# Altium schematic symbol library EnviromentalBoard.SchLib: 37 symbols (part 1 of 2)
Pins are listed as number, name and electrical type; pins without a type are passive.

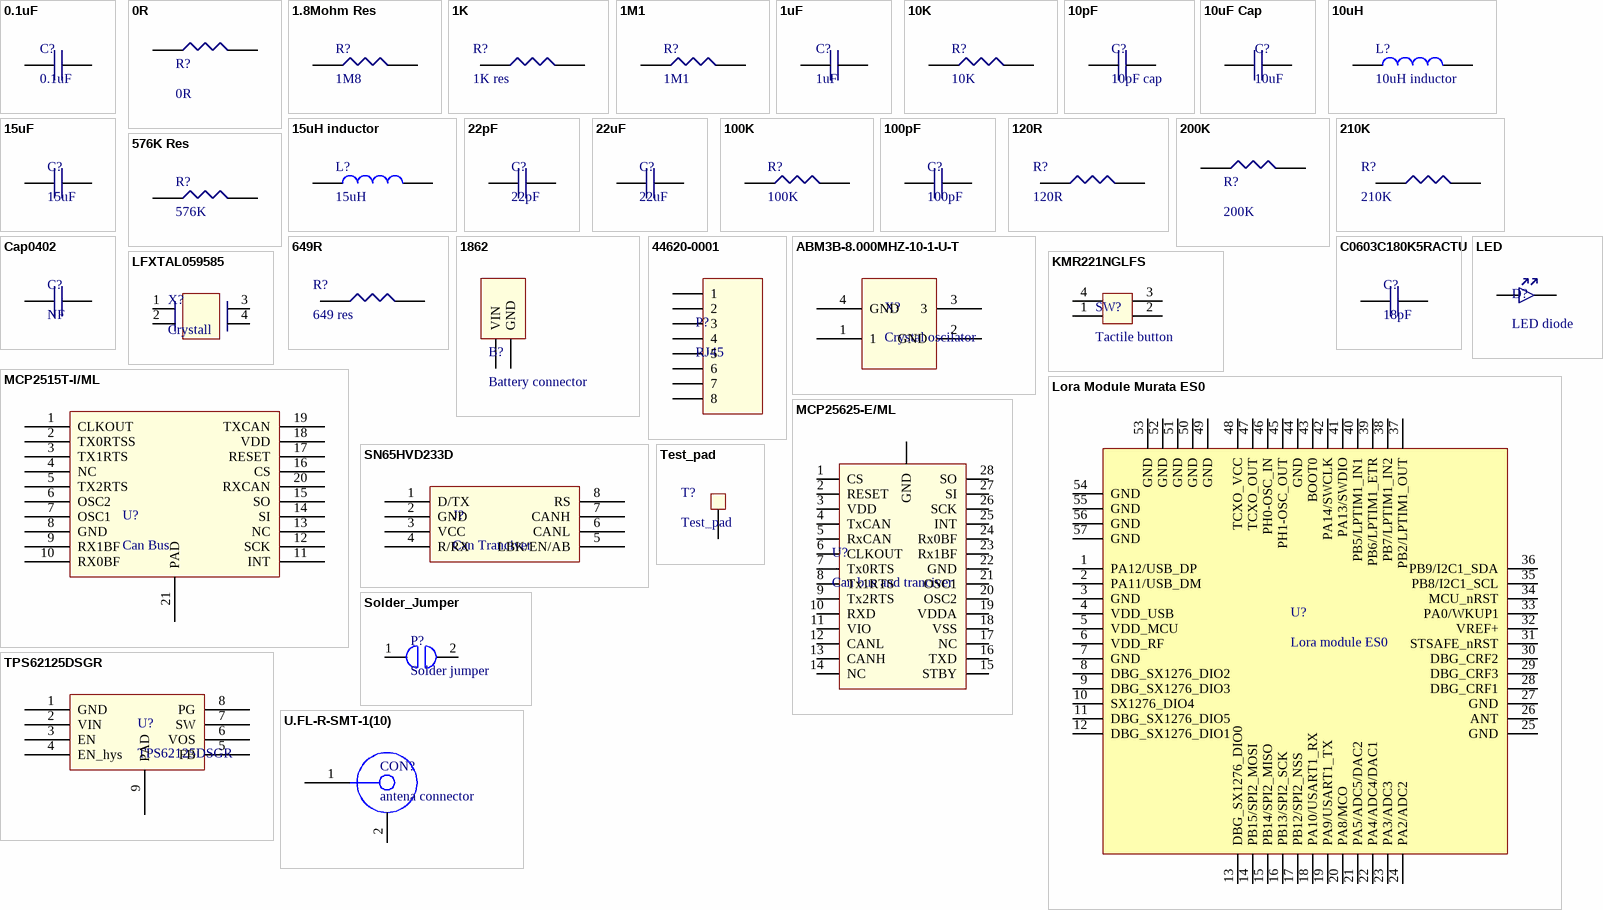
[diagram p0: symbols 0.1uF to U.FL-R-SMT-1(10)]

## 0.1uF
designator C?
Multilayer Ceramic Capacitors MLCC - SMD/SMT .1uF 50Volts X7R +/-10% 0603 STD; Manufacturer: KEMET; Manufacturer Part Number: C0603C104K4RAC7081; Ceramic Capacitor Case: 0603 [1608 Metric]; Capacitance: 0.1µF; Voltage Rating: 16V; Capacitance Tolerance: ± 10%; Product Range: C Series; SVHC: No SVHC (15-Jun-2015); Supplier 1: Farnell; Stock 1: 131460; Pricing 1: 10=0.0639, 100=0.0337, 500=0.0247, 2500=0.0209 (EUR); Dielectric Characteristic: X7R; Packaging: Cut Tape; Operating Temperature Min: -55°C; Operating Temperature Max: 125°C; Automotive Qualification Standard: -; MSL: MSL 1 - Unlimited; ComponentLink1URL: http://www.farnell.com/datasheets/2112158.pdf; ComponentLink1Description: http://www.farnell.com/datasheets/2112158.pdf; ComponentLink2URL: http://www.farnell.com/datasheets/2316283.pdf; ComponentLink2Description: http://www.farnell.com/datasheets/2316283.pdf; ComponentLink3URL: https://api.kemet.com/component-edge/download/datasheet/C0603C104K4RAC7081.pdf; ComponentLink3Description: https://api.kemet.com/component-edge/download/datasheet/C0603C104K4RAC7081.pdf; Supplier Part Number 1: 2522597
footprint 0603Cap
pins: 1, 2

## 0R
designator R?
RES SMD 0.0OHM JUMPER 1/10W 0603; Manufacturer: Vishay; Manufacturer Part Number: CRCW06030000Z0EA; EDA / CAD Models: Download from Accelerated Designs; Resistance (Ohms): 0.0; Power (Watts): 0.1W, 1/10W; Online Catalog: CRCW - Automotive Series; Kits: 541-1419-ND  - RESISTOR KIT 0-1M 1/10W 6100PCS; Other Names: 541-0.0GCT; Supplier 1: Farnell; Stock 1: 1145000; Pricing 1: 5000=0.0046 (EUR); Standard Package: 1; Category: Resistors; Family: Chip Resistor - Surface Mount; Series: CRCW; Packaging: Cut Tape (CT); Tolerance: Jumper; Composition: Thick Film; Features: Automotive AEC-Q200; Temperature Coefficient: -; Operating Temperature: -55°C ~ 155°C; Package / Case: 0603 (1608 Metric); Supplier Device Package: 0603 (1608 Metric); Size / Dimension: 0.061" L x 0.033" W (1.55mm x 0.85mm); Height: 0.020" (0.50mm); Number of Terminations: 2; ComponentLink1URL: https://datasheet.ciiva.com/2461/dcrcwe3-2461968.pdf; ComponentLink1Description: https://datasheet.ciiva.com/2461/dcrcwe3-2461968.pdf; ComponentLink2URL: https://datasheet.ciiva.com/2461/dcrcwe3-2461969.pdf; ComponentLink2Description: https://datasheet.ciiva.com/2461/dcrcwe3-2461969.pdf; ComponentLink3URL: https://datasheet.ciiva.com/2461/dcrcwe3-2461970.pdf; ComponentLink3Description: https://datasheet.ciiva.com/2461/dcrcwe3-2461970.pdf; ComponentLink4URL: https://datasheet.ciiva.com/8340/dcrcwe3-8340197.pdf; ComponentLink4Description: https://datasheet.ciiva.com/8340/dcrcwe3-8340197.pdf; ComponentLink5URL: https://datasheet.ciiva.com/16941/dcrcw-16941302.pdf; ComponentLink5Description: https://datasheet.ciiva.com/16941/dcrcw-16941302.pdf; ComponentLink6URL: https://datasheet.ciiva.com/16199/dcrcwe3-16199063.pdf; ComponentLink6Description: https://datasheet.ciiva.com/16199/dcrcwe3-16199063.pdf; ComponentLink7URL: https://datasheet.ciiva.com/16725/70201119-16725175.pdf; ComponentLink7Description: https://datasheet.ciiva.com/16725/70201119-16725175.pdf; ComponentLink8URL: https://datasheet.ciiva.com/26316/fld-crcw-e3-data-en-26316615.pdf; ComponentLink8Description: https://datasheet.ciiva.com/26316/fld-crcw-e3-data-en-26316615.pdf; ComponentLink9URL: https://datasheet.ciiva.com/5544/dcrcwe3-109170-5544344.pdf; ComponentLink9Description: https://datasheet.ciiva.com/5544/dcrcwe3-109170-5544344.pdf; ComponentLink10URL: https://datasheet.ciiva.com/7841/1720486-7841816.pdf; ComponentLink10Description: https://datasheet.ciiva.com/7841/1720486-7841816.pdf; ComponentLink11URL: https://datasheet.ciiva.com/7841/1720486-7841817.pdf; ComponentLink11Description: https://datasheet.ciiva.com/7841/1720486-7841817.pdf; ComponentLink12URL: https://datasheet.ciiva.com/7841/125364-7841818.pdf; ComponentLink12Description: https://datasheet.ciiva.com/7841/125364-7841818.pdf; ComponentLink13URL: https://datasheet.ciiva.com/16721/70201119-16721450.pdf; ComponentLink13Description: https://datasheet.ciiva.com/16721/70201119-16721450.pdf; Supplier Part Number 1: 2122112
footprint 0603Res
pins: 1, 2

## 1.8Mohm Res
designator R?, comment 1M8
Manufacturer: Multicomp; Manufacturer Part Number: MCHVR03FTFX1804; Supplier 1: Farnell; Stock 1: 4880; Pricing 1: 10=0.0383, 100=0.0291, 500=0.0206, 1000=0.0165, 2500=0.0138, 5000=0.0119, 25000=0.0085 (EUR); Supplier Part Number 1: 2825653
footprint 0603Res
pins: 1, 2

## 1K
designator R?, comment 1K res
Thick Film Resistors - SMD CRGH0603 1% 1K0 0.2W; Manufacturer: TE Connectivity; Manufacturer Part Number: CRGH0603F1K0; Resistance: 1kohm; Voltage Rating: 50V; Resistor Case Style: 0603 [1608 Metric]; Power Rating: 200mW; Product Range: CRG Series; Temperature Coefficient: ± 100ppm/°C; SVHC: No SVHC (15-Jun-2015); Supplier 1: Farnell; Stock 1: 4245; Pricing 1: 10=0.0159, 100=0.0135, 500=0.0104, 1000=0.0093, 2500=0.0088 (EUR); Resistance Tolerance: ± 1%; Packaging: Cut Tape; Resistor Element Type: Thick Film; Automotive Qualification Standard: -; MSL: -; ComponentLink1URL: https://datasheet.ciiva.com/46386/1755795-46386536.pdf; ComponentLink1Description: https://datasheet.ciiva.com/46386/1755795-46386536.pdf; ComponentLink2URL: https://datasheet.ciiva.com/22707/1755795-22707917.pdf; ComponentLink2Description: https://datasheet.ciiva.com/22707/1755795-22707917.pdf; ComponentLink3URL: https://datasheet.ciiva.com/12574/eng-ds-1773204-g-12574479.pdf; ComponentLink3Description: https://datasheet.ciiva.com/12574/eng-ds-1773204-g-12574479.pdf; Supplier Part Number 1: 2332003
footprint 0603Res
pins: 1, 2

## 1M1
designator R?
Manufacturer: Multicomp; Manufacturer Part Number: MCHVR03FTFX1104; Supplier 1: Farnell; Stock 1: 10000; Pricing 1: 5000=0.0122, 25000=0.0088 (EUR); Supplier Part Number 1: 2823300
footprint 0603Res
pins: 1, 2

## 1uF
designator C?
1µF 50V Ceramic Capacitor X5R 0603 (1608 Metric) 0.063" L x 0.031" W (1.60mm x 0.80mm); Manufacturer: TDK; Manufacturer Part Number: C1608X5R1E105K080AC; PCN Part Number: MLCC Part Number Change 30/Nov/2012; Product Training Modules: C Series General Applications SEAT, CCV, and TVCL Design Tools Guide to Replacing an Electrolytic Capacitor with an MLCC; Design Resources: 20 W Non-Isolated Buck LED Driver Using PL LNK460KG; Tolerance: ±10%; Voltage - Rated: 25V; Online Catalog: C Series, General Purpose; Other Names: 445-5146-6; Supplier 1: Farnell; Stock 1: 0; Pricing 1: 10=0.0585, 100=0.0449, 500=0.0335, 1000=0.0279 (GBP); RoHS Information: RoHS Certificate-MLCC; Standard Package: 1; Category: Capacitors; Family: Ceramic Capacitors; Series: C; Packaging: Digi-Reel®; Capacitance: 1µF; Temperature Coefficient: X5R; Mounting Type: Surface Mount, MLCC; Operating Temperature: -55°C ~ 85°C; Applications: General Purpose; Ratings: -; Package / Case: 0603 (1608 Metric); Size / Dimension: 0.063" L x 0.031" W (1.60mm x 0.80mm); Height - Seated (Max): -; Thickness (Max): 0.037" (0.95mm); Lead Spacing: -; Features: -; Lead Style: -; ComponentLink1URL: https://datasheet.ciiva.com/28451/1796654-28451158.pdf; ComponentLink1Description: https://datasheet.ciiva.com/28451/1796654-28451158.pdf; ComponentLink2URL: https://datasheet.ciiva.com/16394/e412-c-16394039.pdf; ComponentLink2Description: https://datasheet.ciiva.com/16394/e412-c-16394039.pdf; ComponentLink3URL: https://datasheet.ciiva.com/6292/tdkmlcccaprange-6292456.pdf; ComponentLink3Description: https://datasheet.ciiva.com/6292/tdkmlcccaprange-6292456.pdf; ComponentLink4URL: https://datasheet.ciiva.com/6292/tdkmlcccaprange-6292458.pdf; ComponentLink4Description: https://datasheet.ciiva.com/6292/tdkmlcccaprange-6292458.pdf; ComponentLink5URL: https://datasheet.ciiva.com/22676/1571323-22676922.pdf; ComponentLink5Description: https://datasheet.ciiva.com/22676/1571323-22676922.pdf; Supplier Part Number 1: 2346891
footprint 0603Cap
pins: 1, 2

## 10K
designator R?
TE CONNECTIVITY / NEOHM         CPF0603F10KC1             SMD Chip Resistor, Thin Film, 10 kohm, 50 V, 0603 [1608 Metric], 63 mW,  1%, CPF Series; Manufacturer: TE Connectivity Neohm; SVHC: To Be Advised; Product Range: TE CONNECTIVITY - CPF Series; Resistance: 10kohm; Power Rating: 63mW; Temperature Coefficient: ± 50ppm/°C; Voltage Rating: 60V; Climatic Category: 55/125/55; External Depth: 0.45mm; External Length / Height: 1.6mm; External Width: 0.8mm; No. of Pins: 2; Overload Voltage: 120V; Supplier 1: Farnell; Manufacturer Part Number: CPF0603F10KC1; Stock 1: 0; Resistor Element Type: Thin Film; Resistance Tolerance: ± 1%; Resistor Case Style: 0603 [1608 Metric]; Resistor Element Material: Thin Film; Packaging: Cut Tape; MSL: (Not Available); Operating Temperature Max: 125°C; Operating Temperature Min: -55°C; Operating Temperature Range: -55°C to +125°C; Package / Case: 0603; Resistor Mounting: SMD; Series: CPF; ComponentLink1URL: https://datasheet.ciiva.com/24494/29261eng-ds-1773200-f-24494553.pdf; ComponentLink1Description: https://datasheet.ciiva.com/24494/29261eng-ds-1773200-f-24494553.pdf; ComponentLink2URL: https://datasheet.ciiva.com/7789/eng-ds-1773200-j-7789563.pdf; ComponentLink2Description: https://datasheet.ciiva.com/7789/eng-ds-1773200-j-7789563.pdf; ComponentLink3URL: https://datasheet.ciiva.com/16902/eng-ds-1773200-i-16902044.pdf; ComponentLink3Description: https://datasheet.ciiva.com/16902/eng-ds-1773200-i-16902044.pdf; ComponentLink4URL: https://datasheet.ciiva.com/22692/1786775-22692861.pdf; ComponentLink4Description: https://datasheet.ciiva.com/22692/1786775-22692861.pdf; Supplier Part Number 1: 1527581RL
footprint 0603Res
pins: 1, 2

## 10pF
designator C?, comment 10pF cap
Cap Ceramic 10pF 50V X7R 10% SMD 0603 125C T/R; Manufacturer: Kyocera AVX; Manufacturer Part Number: 06035C100KAT2A; Supplier 1: Farnell; Stock 1: 0; Capacitance: 10 pF; Case Size/Dimension: 0603; Dielectric: X7R; Tolerance (%): ±10 %; Rated Voltage: 50 V; ComponentLink1URL: https://datasheet.ciiva.com/204/cx7r-204167.pdf; ComponentLink1Description: https://datasheet.ciiva.com/204/cx7r-204167.pdf; ComponentLink2URL: https://datasheet.ciiva.com/28611/1679506-28611544.pdf; ComponentLink2Description: https://datasheet.ciiva.com/28611/1679506-28611544.pdf; ComponentLink3URL: https://datasheet.ciiva.com/22677/1679506-22677033.pdf; ComponentLink3Description: https://datasheet.ciiva.com/22677/1679506-22677033.pdf; ComponentLink4URL: https://datasheet.ciiva.com/16327/cx7r-16327067.pdf; ComponentLink4Description: https://datasheet.ciiva.com/16327/cx7r-16327067.pdf; ComponentLink5URL: https://datasheet.ciiva.com/5416/cx7r-5416268.pdf; ComponentLink5Description: https://datasheet.ciiva.com/5416/cx7r-5416268.pdf; ComponentLink6URL: https://datasheet.ciiva.com/15212/getdatasheetpartid-317346-15212284.pdf; ComponentLink6Description: https://datasheet.ciiva.com/15212/getdatasheetpartid-317346-15212284.pdf; Supplier Part Number 1: 2665201
footprint 0603Cap
pins: 1, 2

## 10uF Cap
designator C?, comment 10uF
MURATA         ZRB18AR61E106ME01L             SMD Multilayer Ceramic Capacitor, 0603 [1608 Metric], 10 F, 25 V,  20%, X5R, ZRA Series; Capacitance: 10µF; Voltage - Rated: 25V; Supplier 1: Farnell; Manufacturer: Murata; Manufacturer Part Number: ZRB18AR61E106ME01L; Stock 1: 0; Pricing 1: 5=0.411, 50=0.187, 250=0.142, 500=0.0978, 1500=0.091 (GBP); Category: Capacitors; Family: Ceramic Capacitors; Series: ZRB; Packaging: Tape & Reel (TR); Tolerance: ±20%; Temperature Coefficient: X5R; Mounting Type: Surface Mount, MLCC; Operating Temperature: -55°C ~ 85°C; Applications: Acoustic Noise Reduction; Ratings: -; Package / Case: 0603 (1608 Metric); Size / Dimension: 0.063" L x 0.031" W (1.60mm x 0.80mm); Height - Seated (Max): -; Thickness (Max): 0.047" (1.20mm); Lead Spacing: -; Features: Interposer Termination; Lead Style: -; ComponentLink1URL: http://www.farnell.com/datasheets/2243360.pdf; ComponentLink1Description: http://www.farnell.com/datasheets/2243360.pdf; ComponentLink2URL: http://www.farnell.com/datasheets/2163235.pdf; ComponentLink2Description: http://www.farnell.com/datasheets/2163235.pdf; ComponentLink3URL: http://search.murata.co.jp/Ceramy/image/img/A01X/G101/ENG/ZRB18AR61E106ME01-01.pdf; ComponentLink3Description: http://search.murata.co.jp/Ceramy/image/img/A01X/G101/ENG/ZRB18AR61E106ME01-01.pdf; Supplier Part Number 1: 2469398
footprint 0603Cap
pins: 1, 2

## 10uH
designator L?, comment 10uH inductor
COILCRAFT   LPS3314-103MRB   INDUCTOR, SHLD, 10UH, 20%, 0.65A, SMD; Product Range: LPS3314 Series; Inductance: 10µH; RMS Current (Irms): 650mA; Saturation Current (Isat): 660mA; Inductor Construction: Shielded; DC Resistance Max: 0.33ohm; Power Inductor Case: 3.3mm x 3.3mm x 1.3mm; SVHC: No SVHC (15-Jun-2015); Supplier 1: Farnell; Manufacturer: Coilcraft; Manufacturer Part Number: LPS3314-103MRB; Stock 1: 67; Pricing 1: 1=0.892, 250=0.701, 500=0.55 (EUR); Inductance Tolerance: ± 20%; Packaging: Cut Tape; ComponentLink1URL: https://datasheet.ciiva.com/46384/1805322-46384791.pdf; ComponentLink1Description: https://datasheet.ciiva.com/46384/1805322-46384791.pdf; ComponentLink2URL: https://datasheet.ciiva.com/46438/1805322-46438520.pdf; ComponentLink2Description: https://datasheet.ciiva.com/46438/1805322-46438520.pdf; Supplier Part Number 1: 2408046
footprint Inductor 3.0x2.5
pins: 1, 2

## 15uF
designator C?
15µF ±20% 6.3V X5R Ceramic Capacitor -55°C ~ 85°C Surface Mount, MLCC 0603 (1608 Metric) 0.063" L x 0.031" W (1.60mm x 0.80mm); Manufacturer: TDK; Manufacturer Part Number: C1608X5R0J156M080AC; PCN Part Number: MLCC Part Number Change 30/Nov/2012; Product Training Modules: C Series General Applications SEAT, CCV, and TVCL Design Tools Guide to Replacing an Electrolytic Capacitor with an MLCC; Design Resources: 20 W Non-Isolated Buck LED Driver Using PL LNK460KG; EDA / CAD Models: Download from Accelerated Designs; Online Catalog: C Series, General Purpose; Other Names: 445-8027-6; Supplier 1: Farnell; Stock 1: 8149; Pricing 1: 10=0.458, 100=0.218, 500=0.152, 1000=0.128 (EUR); RoHS Information: RoHS Certificate-MLCC; Standard Package: 1; Category: Capacitors; Family: Ceramic Capacitors; Series: C; Packaging: Digi-Reel®; Capacitance: 15µF; Tolerance: ±20%; Voltage - Rated: 6.3V; Temperature Coefficient: X5R; Mounting Type: Surface Mount, MLCC; Operating Temperature: -55°C ~ 85°C; Applications: General Purpose; Package / Case: 0603 (1608 Metric); Size / Dimension: 0.063" L x 0.031" W (1.60mm x 0.80mm); Thickness (Max): 0.039" (1.00mm); ComponentLink1URL: https://datasheet.ciiva.com/6276/tdkmlcccaprange-6276742.pdf; ComponentLink1Description: https://datasheet.ciiva.com/6276/tdkmlcccaprange-6276742.pdf; ComponentLink2URL: https://datasheet.ciiva.com/6276/tdkmlcccaprange-6276744.pdf; ComponentLink2Description: https://datasheet.ciiva.com/6276/tdkmlcccaprange-6276744.pdf; ComponentLink3URL: https://datasheet.ciiva.com/6276/tdkmlcccaprange-6276746.pdf; ComponentLink3Description: https://datasheet.ciiva.com/6276/tdkmlcccaprange-6276746.pdf; Supplier Part Number 1: 2525087
footprint 0603Cap
pins: 1, 2

## 15uH inductor
designator L?, comment 15uH
Fixed Inductors 15uH 0.28ohms 0.56A; Manufacturer: TDK; Manufacturer Part Number: VLF302515MT-150M; Unit PriceUSD: VLF-MT; Type: Wirewound; Material - Core: Ferrite; Inductance: 15µH; Tolerance: ±20%; Current Rating: 500mA; Shielding: Shielded; DC Resistance (DCR): 330 mOhm Max; Frequency - Test: 1MHz; Dynamic Catalog: VLF-M and VLF-MT Series; Other Names: 445-9635-6; Supplier 1: Farnell; Stock 1: 1162; Pricing 1: 5=1.46, 50=0.912, 250=0.895, 500=0.698, 1000=0.621, 2000=0.589, 10000=0.557 (EUR); Standard Package: 1; Category: Inductors, Coils, Chokes; Family: Fixed Inductors; Series: VLF-MT; Packaging: Digi-Reel®; Current - Saturation: 500mA; Operating Temperature: -40°C ~ 105°C; Mounting Type: Surface Mount; Package / Case: Non Standard; Size / Dimension: 0.118" L x 0.098" W (3.00mm x 2.50mm); Height - Seated (Max): 0.059" (1.50mm); ComponentLink1URL: https://datasheet.ciiva.com/46449/1759590-46449866.pdf; ComponentLink1Description: https://datasheet.ciiva.com/46449/1759590-46449866.pdf; Supplier Part Number 1: 2455319
footprint Inductor 3.0x2.5
pins: 1, 2

## 22pF
designator C?
CAP CER 0603 22PF 50V X7R 10% AU; Manufacturer: KEMET; Manufacturer Part Number: C0603C220K5RACAUTO; Maximum Processing Temperature: 260 C; Case Style: Ceramic Chip; Lead Finish: Matte Tin Over Nickel; Product Length: 1.6 mm; Supplier 1: Mouser; Stock 1: 11719; Pricing 1: 1=0.28, 10=0.13, 50=0.13, 100=0.08, 1000=0.06, 10000=0.043 (USD); Package/Case: 0603; Package Dimensions: 1.6 x 0.8 x 0.8 mm; Capacitance Value: 22 pF; Tolerance: 10 %; Construction: Flat; Termination Style: Wraparound; Operating Temperature: -55 to 125 C; Mounting: Surface Mount; Voltage(DC): 50 V; Moisture Sensitivity Level: 1; ComponentLink1URL: http://www.kemet.com/docfinder?Partnumber=C0603C220K5RACAUTO; ComponentLink1Description: http://www.kemet.com/docfinder?Partnumber=C0603C220K5RACAUTO; ComponentLink2URL: https://api.kemet.com/component-edge/download/datasheet/C0603C220K5RACAUTO.pdf; ComponentLink2Description: https://api.kemet.com/component-edge/download/datasheet/C0603C220K5RACAUTO.pdf; ComponentLink3URL: http://capacitoredge.kemet.com/capedge2/DataSheet/Datasheet-C0603C220K5RACAUTO.pdf?pn=C0603C220K5RACAUTO; ComponentLink3Description: http://capacitoredge.kemet.com/capedge2/DataSheet/Datasheet-C0603C220K5RACAUTO.pdf?pn=C0603C220K5RACAUTO; Supplier Part Number 1: 80-C0603C220K5RAUTO
footprint 0603Cap
pins: 1, 2

## 22uF
designator C?
MURATA         ZRB18AR60J226ME01L             SMD Multilayer Ceramic Capacitor, 0603 [1608 Metric], 22 F, 6.3 V,  20%, X5R, ZRA Series; Capacitance: 22µF; Voltage - Rated: 6.3V; Supplier 1: Farnell; Manufacturer: Murata; Manufacturer Part Number: ZRB18AR60J226ME01L; Stock 1: 4282; Pricing 1: 5=0.54, 50=0.246, 250=0.175, 500=0.129, 1500=0.111 (EUR); Category: Capacitors; Family: Ceramic Capacitors; Series: ZRB; Packaging: Tape & Reel (TR); Tolerance: ±20%; Temperature Coefficient: X5R; Mounting Type: Surface Mount, MLCC; Operating Temperature: -55°C ~ 85°C; Applications: Acoustic Noise Reduction; Ratings: -; Package / Case: 0603 (1608 Metric); Size / Dimension: 0.063" L x 0.031" W (1.60mm x 0.80mm); Height - Seated (Max): -; Thickness (Max): 0.047" (1.20mm); Lead Spacing: -; Features: Derating Recommended, Interposer Termination; Lead Style: -; Supplier Part Number 1: 2469395
footprint 0603Cap
pins: 1, 2

## 100K
designator R?
Thick Film Resistors - SMD 100KOHM 1/10WATT 1%; Manufacturer: Bourns; Manufacturer Part Number: CR0603-FX-1003HLF; Unit PriceUSD: CR0603; Dynamic Catalog: CR Series; Power (Watts): 0.1W, 1/10W; Temperature Coefficient: ±100ppm/°C; Other Names: CR0603-FX-1003HLFCT; Supplier 1: Farnell; Stock 1: 66337; Pricing 1: 10=0.018, 250=0.0133, 1000=0.0106, 5000=0.0081, 10000=0.0071 (EUR); Quantity Available: Cut Tape (CT)Alternate Packaging; Minimum Quantity: 100k; Package/Case: 0603 (1608 Metric); RoHS Information: CR0603-LF Material Declaration; Standard Package: 1; Category: Resistors; Family: Chip Resistor - Surface Mount; Series: CR0603; Packaging: Cut Tape (CT); Resistance (Ohms): 100k; Tolerance: ±1%; Composition: Thick Film; Features: Moisture Resistant; Operating Temperature: -55°C ~ 155°C; Package / Case: 0603 (1608 Metric); Supplier Device Package: 0603; Size / Dimension: 0.063" L x 0.031" W (1.60mm x 0.80mm); Height: 0.022" (0.55mm); Number of Terminations: 2; Online Catalog: CR Series; ComponentLink1URL: https://datasheet.ciiva.com/18595/chpreztr-18595093.pdf; ComponentLink1Description: https://datasheet.ciiva.com/18595/chpreztr-18595093.pdf; ComponentLink2URL: https://datasheet.ciiva.com/18595/chpreztr-18595094.pdf; ComponentLink2Description: https://datasheet.ciiva.com/18595/chpreztr-18595094.pdf; ComponentLink3URL: https://datasheet.ciiva.com/9120/chpreztr-9120759.pdf; ComponentLink3Description: https://datasheet.ciiva.com/9120/chpreztr-9120759.pdf; ComponentLink4URL: https://datasheet.ciiva.com/18595/chpreztr-18595095.pdf; ComponentLink4Description: https://datasheet.ciiva.com/18595/chpreztr-18595095.pdf; ComponentLink5URL: https://datasheet.ciiva.com/5541/chpreztr-5541272.pdf; ComponentLink5Description: https://datasheet.ciiva.com/5541/chpreztr-5541272.pdf; ComponentLink6URL: https://datasheet.ciiva.com/22713/691949-22713208.pdf; ComponentLink6Description: https://datasheet.ciiva.com/22713/691949-22713208.pdf; ComponentLink7URL: https://datasheet.ciiva.com/16938/chpreztr-16938749.pdf; ComponentLink7Description: https://datasheet.ciiva.com/16938/chpreztr-16938749.pdf; Supplier Part Number 1: 2333553
footprint 0603Res
pins: 1, 2

## 100pF
designator C?
MULTICOMP         MC0402B101K500CT            SMD Multilayer Ceramic Capacitor, MC Series, 100 pF,  10%, X7R, 50 V, 0402 [1005 Metric]; Product Range: MULTICOMP - MC Series; SVHC: To Be Advised; Voltage Rating: 50V; Supplier 1: Farnell; Manufacturer: Multicomp; Manufacturer Part Number: MC0402B101K500CT; Stock 1: 250; Pricing 1: 10=0.0386, 100=0.0239, 500=0.0142, 2500=0.0091 (EUR); Capacitance: 100pF; Capacitance Tolerance: ± 10%; Capacitor Case Style: 0402 [1005 Metric]; Capacitor Terminals: SMD; Ceramic Capacitor Case: 0402 [1005 Metric]; Dielectric Characteristic: X7R; MSL: -; Operating Temperature Max: 125°C; Operating Temperature Min: -55°C; Packaging: Tape & Reel; ComponentLink1URL: https://datasheet.ciiva.com/36858/1870456-36858427.pdf; ComponentLink1Description: https://datasheet.ciiva.com/36858/1870456-36858427.pdf; ComponentLink2URL: https://datasheet.ciiva.com/36857/1825492-36857949.pdf; ComponentLink2Description: https://datasheet.ciiva.com/36857/1825492-36857949.pdf; ComponentLink3URL: https://datasheet.ciiva.com/36858/1870456-36858493.pdf; ComponentLink3Description: https://datasheet.ciiva.com/36858/1870456-36858493.pdf; Supplier Part Number 1: 1758968
footprint 0402CAP
pins: 1, 2

## 120R
designator R?
RES SMD 120 OHM 1% 1/10W 0603; Manufacturer: Vishay; Manufacturer Part Number: CRCW0603120RFKEA; Brand: Vishay / Dale; Resistance: 120 Ohms; Power Rating: 100 mW; Temperature Coefficient: 100 PPM / K; Voltage Rating: 75 V; Unit Weight: 0.000071 oz; Supplier 1: Farnell; Stock 1: 0; Product Category: Thick Film Resistors - SMD; RoHS: Details; Tolerance: 1 %; Case Code - in: 0603; Case Code - mm: 1608; Operating Temperature Range: - 55 C to + 155 C; Series: CRCW; Height: 0.45 mm; Length: 1.55 mm; Package / Case: 0603 (1608 metric); Packaging: Reel; Product: Thick Film Resistors SMD; Factory Pack Quantity: 5000; Termination Style: SMD/SMT; Width: 0.85 mm; ComponentLink1URL: https://datasheet.ciiva.com/11811/0900766b80d98afc-11811523.pdf; ComponentLink1Description: https://datasheet.ciiva.com/11811/0900766b80d98afc-11811523.pdf; ComponentLink2URL: https://datasheet.ciiva.com/2513/dcrcwe3-2513575.pdf; ComponentLink2Description: https://datasheet.ciiva.com/2513/dcrcwe3-2513575.pdf; ComponentLink3URL: https://datasheet.ciiva.com/2513/dcrcwe3-2513576.pdf; ComponentLink3Description: https://datasheet.ciiva.com/2513/dcrcwe3-2513576.pdf; ComponentLink4URL: https://datasheet.ciiva.com/26316/fld-crcw-e3-data-en-26316568.pdf; ComponentLink4Description: https://datasheet.ciiva.com/26316/fld-crcw-e3-data-en-26316568.pdf; ComponentLink5URL: https://datasheet.ciiva.com/2513/dcrcwe3-2513577.pdf; ComponentLink5Description: https://datasheet.ciiva.com/2513/dcrcwe3-2513577.pdf; ComponentLink6URL: https://datasheet.ciiva.com/5544/dcrcwe3-109170-5544139.pdf; ComponentLink6Description: https://datasheet.ciiva.com/5544/dcrcwe3-109170-5544139.pdf; ComponentLink7URL: https://datasheet.ciiva.com/7777/1533075-7777275.pdf; ComponentLink7Description: https://datasheet.ciiva.com/7777/1533075-7777275.pdf; ComponentLink8URL: https://datasheet.ciiva.com/7777/1697337-7777276.pdf; ComponentLink8Description: https://datasheet.ciiva.com/7777/1697337-7777276.pdf; ComponentLink9URL: https://datasheet.ciiva.com/16725/70201119-16725181.pdf; ComponentLink9Description: https://datasheet.ciiva.com/16725/70201119-16725181.pdf; Supplier Part Number 1: 1652832RL
footprint 0603Res
pins: 1, 2

## 200K
designator R?
Res Thick Film 0603 200K Ohm 1% 0.1W(1/10W) ±100ppm/C Molded SMD Automotive Punched T/R; Manufacturer: Panasonic; Manufacturer Part Number: ERJ-3EKF2003V; Resistance: 200 kΩ; Temp Coefficient: ±100 ppm/°C; Working Voltage-Nom: 75 V; Overload Voltage - Max: 150 V; No. of Terminations: 2; Supplier 1: Farnell; Stock 1: 57952; Pricing 1: 10=0.0416, 100=0.0243, 500=0.0179, 1000=0.0161 (EUR); Rated Power: 0.1 W; Tolerance (%): ±1 %; Technology: Thick Film; Operating Temp Range: -55 to +155 °C; Case Size: 0603 (1608 Metric); Dimension: 1.6 x 0.8 mm; Height - Max: 0.5 mm; ComponentLink1URL: https://datasheet.ciiva.com/16785/70260748-16785079.pdf; ComponentLink1Description: https://datasheet.ciiva.com/16785/70260748-16785079.pdf; ComponentLink2URL: https://datasheet.ciiva.com/5868/426256-5868137.pdf; ComponentLink2Description: https://datasheet.ciiva.com/5868/426256-5868137.pdf; ComponentLink3URL: https://datasheet.ciiva.com/16199/aoa0000ce2-16199899.pdf; ComponentLink3Description: https://datasheet.ciiva.com/16199/aoa0000ce2-16199899.pdf; ComponentLink4URL: https://datasheet.ciiva.com/16758/70260748-16758091.pdf; ComponentLink4Description: https://datasheet.ciiva.com/16758/70260748-16758091.pdf; ComponentLink5URL: https://datasheet.ciiva.com/17207/aoa0000ce2-17207054.pdf; ComponentLink5Description: https://datasheet.ciiva.com/17207/aoa0000ce2-17207054.pdf; ComponentLink6URL: https://datasheet.ciiva.com/30113/aoa0000ce2-30113838.pdf; ComponentLink6Description: https://datasheet.ciiva.com/30113/aoa0000ce2-30113838.pdf; ComponentLink7URL: https://datasheet.ciiva.com/46374/426256-46374238.pdf; ComponentLink7Description: https://datasheet.ciiva.com/46374/426256-46374238.pdf; ComponentLink8URL: https://datasheet.ciiva.com/46387/426256-46387278.pdf; ComponentLink8Description: https://datasheet.ciiva.com/46387/426256-46387278.pdf; ComponentLink9URL: https://datasheet.ciiva.com/24068/aoa0000ce2-24068783.pdf; ComponentLink9Description: https://datasheet.ciiva.com/24068/aoa0000ce2-24068783.pdf; Supplier Part Number 1: 2059509
footprint 0603Res
pins: 1, 2

## 210K
designator R?
Thick Film Resistors - SMD 1/10watt 210Kohms 1%; Manufacturer: Vishay; Manufacturer Part Number: CRCW0603210KFKEA; Brand: Vishay / Dale; Power Rating: 100 mW; Temperature Coefficient: 100 PPM / K; Voltage Rating: 75 V; Case Height: 0.45 mm; Case Length: 1.55 mm; Case Width: 0.85 mm; Unit Weight: 0.000071 oz; Supplier 1: Farnell; Stock 1: 17185; Pricing 1: 10=0.0283, 100=0.0198, 500=0.0145, 1000=0.0091 (EUR); Product Category: Thick Film Resistors - SMD; RoHS: Details; Resistance: 210 kOhms; Tolerance: 1 %; Case Code - in: 0603; Case Code - mm: 1608; Operating Temperature Range: - 55 C to + 155 C; Package / Case: 0603 (1608 metric); Packaging: Reel; Product: Thick Film Resistors SMD; Series: CRCW; Factory Pack Quantity: 5000; ComponentLink1URL: https://datasheet.ciiva.com/5544/dcrcwe3-109170-5544760.pdf; ComponentLink1Description: https://datasheet.ciiva.com/5544/dcrcwe3-109170-5544760.pdf; ComponentLink2URL: https://datasheet.ciiva.com/16883/dcrcwe3-16883336.pdf; ComponentLink2Description: https://datasheet.ciiva.com/16883/dcrcwe3-16883336.pdf; ComponentLink3URL: https://datasheet.ciiva.com/22871/70201119-22871881.pdf; ComponentLink3Description: https://datasheet.ciiva.com/22871/70201119-22871881.pdf; ComponentLink4URL: https://datasheet.ciiva.com/16779/70201119-16779626.pdf; ComponentLink4Description: https://datasheet.ciiva.com/16779/70201119-16779626.pdf; ComponentLink5URL: https://datasheet.ciiva.com/7673/1697337-7673292.pdf; ComponentLink5Description: https://datasheet.ciiva.com/7673/1697337-7673292.pdf; ComponentLink6URL: https://datasheet.ciiva.com/7673/1697337-7673293.pdf; ComponentLink6Description: https://datasheet.ciiva.com/7673/1697337-7673293.pdf; ComponentLink7URL: https://datasheet.ciiva.com/16449/dcrcwe3-16449149.pdf; ComponentLink7Description: https://datasheet.ciiva.com/16449/dcrcwe3-16449149.pdf; ComponentLink8URL: https://datasheet.ciiva.com/22705/1697337-22705951.pdf; ComponentLink8Description: https://datasheet.ciiva.com/22705/1697337-22705951.pdf; Supplier Part Number 1: 2138527
footprint 0603Res
pins: 1, 2

## 576K Res
designator R?, comment 576K
Res Thick Film 0603 576K Ohm 1% 0.1W(1/10W) ±100ppm/C Molded SMD Automotive Punched T/R; Manufacturer: Panasonic; Manufacturer Part Number: ERJ-3EKF5763V; EDA / CAD Models: Download from Accelerated Designs; Power (Watts): 0.1W, 1/10W; Temperature Coefficient: ±100ppm/°C; Online Catalog: ERJ Series; Kits: RSM5H-ND  - RES KIT 100K-1M 1/10W 4850PCS; Other Names: ERJ-3EKF5763 ERJ3EKF5763 P576KHCT; Supplier 1: Farnell; Stock 1: 39830; Pricing 1: 10=0.0416, 100=0.0243, 500=0.0181, 1000=0.0162 (EUR); Standard Package: 1; Category: Resistors; Family: Chip Resistor - Surface Mount; Series: ERJ; Packaging: Cut Tape (CT); Resistance (Ohms): 576k; Tolerance: ±1%; Composition: Thick Film; Features: Automotive AEC-Q200; Operating Temperature: -55°C ~ 155°C; Package / Case: 0603 (1608 Metric); Supplier Device Package: 0603; Size / Dimension: 0.063" L x 0.031" W (1.60mm x 0.80mm); Height: 0.022" (0.55mm); Number of Terminations: 2; ComponentLink1URL: https://datasheet.ciiva.com/9181/aoa0000ce2-9181015.pdf; ComponentLink1Description: https://datasheet.ciiva.com/9181/aoa0000ce2-9181015.pdf; ComponentLink2URL: https://datasheet.ciiva.com/22668/1678782-22668424.pdf; ComponentLink2Description: https://datasheet.ciiva.com/22668/1678782-22668424.pdf; ComponentLink3URL: https://datasheet.ciiva.com/9181/aoa0000ce2-9181017.pdf; ComponentLink3Description: https://datasheet.ciiva.com/9181/aoa0000ce2-9181017.pdf; ComponentLink4URL: https://datasheet.ciiva.com/24031/aoa0000ce2-24031849.pdf; ComponentLink4Description: https://datasheet.ciiva.com/24031/aoa0000ce2-24031849.pdf; ComponentLink5URL: https://datasheet.ciiva.com/46420/1678782-46420010.pdf; ComponentLink5Description: https://datasheet.ciiva.com/46420/1678782-46420010.pdf; ComponentLink6URL: https://datasheet.ciiva.com/16768/70260748-16768539.pdf; ComponentLink6Description: https://datasheet.ciiva.com/16768/70260748-16768539.pdf; ComponentLink7URL: https://datasheet.ciiva.com/16778/70260748-16778396.pdf; ComponentLink7Description: https://datasheet.ciiva.com/16778/70260748-16778396.pdf; ComponentLink8URL: https://datasheet.ciiva.com/30145/aoa0000ce2-30145500.pdf; ComponentLink8Description: https://datasheet.ciiva.com/30145/aoa0000ce2-30145500.pdf; Supplier Part Number 1: 2303298
footprint 0603Res
pins: 1, 2

## 649R
designator R?, comment 649 res
RES SMD 649 OHM 1% 1/10W 0603; Manufacturer: Vishay; Manufacturer Part Number: CRCW0603649RFKEA; Brand: Vishay / Dale; Resistance: 649 Ohms; Power Rating: 100 mW; Temperature Coefficient: 100 PPM / K; Voltage Rating: 75 V; Unit Weight: 0.000071 oz; Supplier 1: Farnell; Stock 1: 11914; Pricing 1: 10=0.0287, 100=0.0201, 500=0.0199, 1000=0.0091 (EUR); Product Category: Thick Film Resistors - SMD; RoHS: Details; Tolerance: 1 %; Case Code - in: 0603; Case Code - mm: 1608; Operating Temperature Range: - 55 C to + 155 C; Series: CRCW; Height: 0.45 mm; Length: 1.55 mm; Package / Case: 0603 (1608 metric); Packaging: Reel; Product: Thick Film Resistors SMD; Factory Pack Quantity: 5000; Termination Style: SMD/SMT; Width: 0.85 mm; ComponentLink1URL: https://datasheet.ciiva.com/11818/0900766b80d98afc-11818191.pdf; ComponentLink1Description: https://datasheet.ciiva.com/11818/0900766b80d98afc-11818191.pdf; ComponentLink2URL: https://datasheet.ciiva.com/2494/dcrcwe3-2494513.pdf; ComponentLink2Description: https://datasheet.ciiva.com/2494/dcrcwe3-2494513.pdf; ComponentLink3URL: https://datasheet.ciiva.com/2494/dcrcwe3-2494514.pdf; ComponentLink3Description: https://datasheet.ciiva.com/2494/dcrcwe3-2494514.pdf; ComponentLink4URL: https://datasheet.ciiva.com/2494/dcrcwe3-2494515.pdf; ComponentLink4Description: https://datasheet.ciiva.com/2494/dcrcwe3-2494515.pdf; ComponentLink5URL: https://datasheet.ciiva.com/3257/dcrcwe3-3257813.pdf; ComponentLink5Description: https://datasheet.ciiva.com/3257/dcrcwe3-3257813.pdf; ComponentLink6URL: https://datasheet.ciiva.com/8079/66915-8079413.pdf; ComponentLink6Description: https://datasheet.ciiva.com/8079/66915-8079413.pdf; ComponentLink7URL: https://datasheet.ciiva.com/7672/1697337-7672552.pdf; ComponentLink7Description: https://datasheet.ciiva.com/7672/1697337-7672552.pdf; ComponentLink8URL: https://datasheet.ciiva.com/7672/1697337-7672553.pdf; ComponentLink8Description: https://datasheet.ciiva.com/7672/1697337-7672553.pdf; ComponentLink9URL: https://datasheet.ciiva.com/16427/dcrcwe3-16427131.pdf; ComponentLink9Description: https://datasheet.ciiva.com/16427/dcrcwe3-16427131.pdf; ComponentLink10URL: https://datasheet.ciiva.com/16893/dcrcwe3-16893179.pdf; ComponentLink10Description: https://datasheet.ciiva.com/16893/dcrcwe3-16893179.pdf; Supplier Part Number 1: 2141354
footprint 0603Res
pins: 1, 2

## 1862
designator B?, comment Battery connector
JST-PH 2-Pin SMT Right Angle Breakout Board; Manufacturer: Adafruit Industries; Manufacturer Part Number: 1862; Supplier 1: Mouser; Stock 1: 115; Pricing 1: 1=1.5, 10=1.5, 50=1.5, 100=1.5, 1000=1.5, 10000=1.5 (USD); Supplier Part Number 1: 485-1862
footprint BAT_CON
pins: 1 VIN, 2 GND

## 44620-0001
designator P?, comment RJ45
MODULAR JACK; Manufacturer: Molex; Manufacturer Part Number: 44620-0001; Number of Contacts: 8; Rad Hard: No; Gender: RCP; Pitch: 2.04 mm; Body Orientation: Right Angle; Supplier 1: Farnell; Stock 1: 1202; Pricing 1: 1=0.689, 50=0.675, 100=0.67, 250=0.669, 500=0.668, 1000=0.667 (EUR); Type: RJ-45; Termination Method: Solder; Mounting: Through Hole; Category: Connector Telephone and Telecom; ComponentLink1URL: https://datasheet.ciiva.com/26929/getdatasheetpartid-767379-26929525.pdf; ComponentLink1Description: https://datasheet.ciiva.com/26929/getdatasheetpartid-767379-26929525.pdf; ComponentLink2URL: https://datasheet.ciiva.com/19472/2040276-19472615.pdf; ComponentLink2Description: https://datasheet.ciiva.com/19472/2040276-19472615.pdf; ComponentLink3URL: https://datasheet.ciiva.com/30213/71510446200001-modular-jacks-plug-30213975.pdf; ComponentLink3Description: https://datasheet.ciiva.com/30213/71510446200001-modular-jacks-plug-30213975.pdf; ComponentLink4URL: https://datasheet.ciiva.com/4562/0446200001-modular-jacks-plug-145952-4562632.pdf; ComponentLink4Description: https://datasheet.ciiva.com/4562/0446200001-modular-jacks-plug-145952-4562632.pdf; ComponentLink5URL: https://datasheet.ciiva.com/16074/832720446200001-modular-jacks-plug-16074650.pdf; ComponentLink5Description: https://datasheet.ciiva.com/16074/832720446200001-modular-jacks-plug-16074650.pdf; ComponentLink6URL: https://datasheet.ciiva.com/1107/66995-1107778.pdf; ComponentLink6Description: https://datasheet.ciiva.com/1107/66995-1107778.pdf; ComponentLink7URL: https://datasheet.ciiva.com/9393/0446200001-modular-jacks-plug-9393019.pdf; ComponentLink7Description: https://datasheet.ciiva.com/9393/0446200001-modular-jacks-plug-9393019.pdf; ComponentLink8URL: https://datasheet.ciiva.com/16649/0446200001-modular-jacks-plug-16649582.pdf; ComponentLink8Description: https://datasheet.ciiva.com/16649/0446200001-modular-jacks-plug-16649582.pdf; Supplier Part Number 1: 2782009
footprint EThernet conn
pins: 1, 2, 3, 4, 5, 6, 7, 8

## ABM3B-8.000MHZ-10-1-U-T
designator X?, comment Crystal oscilator
8MHz ±10ppm Crystal 10pF 200 Ohm -10°C ~ 60°C  Surface Mount 4-SMD, No Lead (DFN, LCC); Manufacturer: Abracon; Manufacturer Part Number: ABM3B-8.000MHZ-10-1-U-T; ESR (Equivalent Series Resistance): 200 Ohm; Operating Mode: Fundamental; Stock 1: 0; Category: Crystals and Oscillators; Family: Crystals; Series: ABM3B; Packaging: Tape & Reel (TR); Type: MHz Crystal; Frequency: 8MHz; Frequency Stability: ±10ppm; Frequency Tolerance: ±10ppm; Load Capacitance: 10pF; Operating Temperature: -10°C ~ 60°C; Ratings: -; Mounting Type: Surface Mount; Package / Case: 4-SMD, No Lead (DFN, LCC); Size / Dimension: 0.197" L x 0.126" W (5.00mm x 3.20mm); Height: 0.043" (1.10mm); ComponentLink1URL: https://datasheet.ciiva.com/855/abm3b-855873.pdf; ComponentLink1Description: https://datasheet.ciiva.com/855/abm3b-855873.pdf; ComponentLink2URL: https://datasheet.ciiva.com/855/abm3b-855874.pdf; ComponentLink2Description: https://datasheet.ciiva.com/855/abm3b-855874.pdf; ComponentLink3URL: https://datasheet.ciiva.com/855/abm3b-855875.pdf; ComponentLink3Description: https://datasheet.ciiva.com/855/abm3b-855875.pdf; ComponentLink4URL: https://datasheet.ciiva.com/16378/abm3b-16378027.pdf; ComponentLink4Description: https://datasheet.ciiva.com/16378/abm3b-16378027.pdf; ComponentLink5URL: https://datasheet.ciiva.com/3175/abm3b-3175853.pdf; ComponentLink5Description: https://datasheet.ciiva.com/3175/abm3b-3175853.pdf; Supplier 1: Farnell; Supplier Part Number 1: 2467817RL
footprint DFN-Crystal (DFN, 4-Leads, Body 3.20x5.00mm, Pitch 4.00mm, IPC Medium Density)
pins: 1, 2 GND, 3, 4 GND

## C0603C180K5RACTU
designator C?, comment 18pF
Multilayer Ceramic Capacitors MLCC - SMD/SMT .1uF 50Volts X7R +/-10% 0603 STD; Manufacturer: KEMET; Manufacturer Part Number: C0603C180K5RACTU; Supplier 1: Farnell; Stock 1: 3407; Pricing 1: 10=0.17, 100=0.0897, 500=0.0659, 1000=0.0559, 2000=0.0492, 4000=0.0416, 20000=0.0364 (EUR); Supplier Part Number 1: 2821151
footprint 0603Cap
pins: 1, 2

## Cap0402
designator C?, comment NF
footprint 0402CAP
pins: 1, 2

## KMR221NGLFS
designator SW?, comment Tactile button
SWITCH TACTILE SPST-NO 0.05A 32V; Manufacturer: ITT C&K; Manufacturer Part Number: KMR221NGLFS; Pole Throw Configuration: SPST; Mechanical Life: 200000 Cycles; Switch Configuration: N.O.; Illumination Type: N/R; Ground Terminal: No; Body Orientation: Straight; Actuator Length: 0.5 mm; Operating Force: 2 N; Actuator Style: Round Button; Dielectric Strength: >=250 Vrms; Minimum Insulation Resistance: >=1000 MOhm; Contact Rating @ Voltage: 1 A; Supplier 1: C&K Components; Stock 1: 5345; Pricing 1: 10=0.278, 500=0.264, 1000=0.208, 5000=0.204, 10000=0.2 (GBP); Part No: KMR221NGLFS; RoHS: Yes; Supplier Standard Pack: 7,000; Type: Micro-Miniature; Maximum AC Voltage Rating: N/A; Family: KMR 2; Contact Material: Silver; Actuator Color: N/A; Maximum DC Voltage Rating: 32 V; Seal Description: N/A; Packaging: Tape and Reel; Contact Plating: Silver; Electrical Life: N/A; Housing Material: N/A; Product Weight: N/A; Base Material: N/A; Mounting: Surface Mount,Gull Wing; Seal Location: N/A; Operating Temperature: -40 to 85 C; Dimension: 2.8 x 4.6 x 1.9 mm; HTS: 8536501199; ECCN: EAR99; ComponentLink1URL: https://datasheet.ciiva.com/16443/kmr221nglfs-16443038.pdf; ComponentLink1Description: https://datasheet.ciiva.com/16443/kmr221nglfs-16443038.pdf; ComponentLink2URL: https://datasheet.ciiva.com/2900/kmr2-9aug12-2900169.pdf; ComponentLink2Description: https://datasheet.ciiva.com/2900/kmr2-9aug12-2900169.pdf; ComponentLink3URL: https://datasheet.ciiva.com/2900/kmr2-9aug12-2900170.pdf; ComponentLink3Description: https://datasheet.ciiva.com/2900/kmr2-9aug12-2900170.pdf; ComponentLink4URL: https://datasheet.ciiva.com/16695/kmr2-9aug12-16695914.pdf; ComponentLink4Description: https://datasheet.ciiva.com/16695/kmr2-9aug12-16695914.pdf; ComponentLink5URL: https://datasheet.ciiva.com/2900/kmr2-9aug12-2900171.pdf; ComponentLink5Description: https://datasheet.ciiva.com/2900/kmr2-9aug12-2900171.pdf; Supplier Part Number 1: 2845727
footprint Tactile button
pins: 1, 2, 3, 4

## LED
designator D?, comment LED diode
Manufacturer: Kingbright; Manufacturer Part Number: KPG1-1608VGC-TT-5MAV; Supplier 1: Farnell; Stock 1: 3955; Pricing 1: 5=0.579, 25=0.542, 100=0.504, 250=0.48, 500=0.443, 1000=0.406 (EUR); ComponentLink1URL: http://www.farnell.com/datasheets/2163492.pdf; ComponentLink1Description: http://www.farnell.com/datasheets/2163492.pdf; Supplier Part Number 1: 2671383
footprint LED
pins: 1, 2

## LFXTAL059585
designator X?, comment Crystall
IQD FREQUENCY PRODUCTS         LFXTAL059585             CRYSTAL, 20MHZ, 10PF, 2MM X 1.6MM                          New; Crystal Case: SMD, 2mm x 1.6mm; Frequency Stability + / -: 20ppm; Frequency Tolerance + / -: 15ppm; Product Range: IQXC-42 20MHZ Series; SVHC: No SVHC (20-Jun-2016); Supplier 1: Farnell; Manufacturer: IQD; Manufacturer Part Number: LFXTAL059585; Stock 1: 62; Pricing 1: 1=0.815, 5=0.783, 10=0.765, 20=0.747, 40=0.729, 100=0.711, 500=0.693 (EUR); Frequency Nom: 20MHz; Load Capacitance: 10pF; Operating Temperature Min: -40°C; Operating Temperature Max: 85°C; ComponentLink1URL: http://www.farnell.com/datasheets/2117914.pdf; ComponentLink1Description: http://www.farnell.com/datasheets/2117914.pdf; Supplier Part Number 1: 2627212
footprint IQXC-42 (crystall)
pins: 1, 2, 3, 4

## Lora Module Murata ES0
designator U?, comment Lora module ES0
Lora Module Murata
footprint LORA MODULE ES0
pins: 1 PA12/USB_DP, 2 PA11/USB_DM, 3 GND, 4 VDD_USB, 5 VDD_MCU, 6 VDD_RF, 7 GND, 8 DBG_SX1276_DIO2, 9 DBG_SX1276_DIO3, 10 SX1276_DIO4, 11 DBG_SX1276_DIO5, 12 DBG_SX1276_DIO1, 13 DBG_SX1276_DIO0, 14 PB15/SPI2_MOSI, 15 PB14/SPI2_MISO, 16 PB13/SPI2_SCK, 17 PB12/SPI2_NSS, 18 PA10/USART1_RX, 19 PA9/USART1_TX, 20 PA8/MCO, 21 PA5/ADC5/DAC2, 22 PA4/ADC4/DAC1, 23 PA3/ADC3, 24 PA2/ADC2, 25 GND, 26 ANT, 27 GND, 28 DBG_CRF1, 29 DBG_CRF3, 30 DBG_CRF2, 31 STSAFE_nRST, 32 VREF+, 33 PA0/WKUP1, 34 MCU_nRST, 35 PB8/I2C1_SCL, 36 PB9/I2C1_SDA, 37 PB2/LPTIM1_OUT, 38 PB7/LPTIM1_IN2, 39 PB6/LPTIM1_ETR, 40 PB5/LPTIM1_IN1, 41 PA13/SWDIO, 42 PA14/SWCLK, 43 BOOT0, 44 GND, 45 PH1-OSC_OUT, 46 PH0-OSC_IN, 47 TCXO_OUT, 48 TCXO_VCC, 49 GND, 50 GND, 51 GND, 52 GND, 53 GND, 54 GND, 55 GND, 56 GND, 57 GND

## MCP2515T-I/ML
designator U?, comment Can Bus
IC CAN CTLR W/SPI 2.0B 20-QFN; Manufacturer: Microchip; Manufacturer Part Number: MCP2515T-I/ML; Data Rate: 1000Kbps; Number of Transceivers: 1; Power Down Mode: Sleep/Standby; Standard Supported: CAN 2.0B; Operating Supply Voltage (Max): 5.5V; Operating Supply Voltage (Typ): 3.3/5V; Operating Supply Voltage (Min): 2.7V; Supply Current: 10mA; Supplier 1: Farnell; Stock 1: 3152; Pricing 1: 1=1.66, 10=1.53, 25=1.39, 100=1.27 (EUR); Category: Controller; Package Type: QFN EP; Packaging: Tape and Reel; Operating Temperature (Max): 85C; Operating Temperature (Min): -40C; Operating Temperature Classification: Industrial; Mounting: Surface Mount; Pin Count: 20; ComponentLink1URL: https://datasheet.ciiva.com/11212/21801f-11212833.pdf; ComponentLink1Description: https://datasheet.ciiva.com/11212/21801f-11212833.pdf; ComponentLink2URL: https://datasheet.ciiva.com/1695/21801g-1695396.pdf; ComponentLink2Description: https://datasheet.ciiva.com/1695/21801g-1695396.pdf; ComponentLink3URL: https://datasheet.ciiva.com/1695/21801g-1695397.pdf; ComponentLink3Description: https://datasheet.ciiva.com/1695/21801g-1695397.pdf; ComponentLink4URL: https://datasheet.ciiva.com/1695/21801g-1695398.pdf; ComponentLink4Description: https://datasheet.ciiva.com/1695/21801g-1695398.pdf; ComponentLink5URL: https://datasheet.ciiva.com/16454/filehandler-aspxddocname-en011733-16454232.pdf; ComponentLink5Description: https://datasheet.ciiva.com/16454/filehandler-aspxddocname-en011733-16454232.pdf; Supplier Part Number 1: 2857781
footprint QFN-Can Bus (QFN, 20-Leads, Body 4.00x4.00mm, Pitch 0.50mm, Thermal Pad 2.50x2.50mm, IPC Medium Density)
pins: 1 CLKOUT, 2 TX0RTSS, 3 TX1RTS, 4 NC, 5 TX2RTS, 6 OSC2, 7 OSC1, 8 GND, 9 RX1BF, 10 RX0BF, 11 INT, 12 SCK, 13 NC, 14 SI, 15 SO, 16 CS, 17 RESET, 18 VDD, 19 TXCAN, 20 RXCAN, 21 PAD

## MCP25625-E/ML
designator U?, comment Can bus and tranciver
MICROCHIP         MCP25625-E/ML            CAN Bus, Controller with Transceiver, CAN, SPI, 3, 2, 2.7 V, 5.5 V, QFN; Data Rate: 1 Mb/s; Supply Voltage - Max: 5.5 V; Supply Voltage - Min: 2.7 V, 4.5 V; Operating Supply Current: 70 mA; Brand: Microchip Technology; Interface Type: Serial, 4-Wire, SPI; Isolation Type: Non-Isolated; Number of Drivers: 1 Driver; Number of Receivers: 1 Receiver; Number of Transceivers: 1 Transceiver; Operating Supply Voltage: 4.5 V to 5.5 V; Propagation Delay Time: 125 ns; Protocol Supported: CAN 2.0B; Unit Weight: 0.002497 oz; Supplier 1: Farnell; Manufacturer: Microchip; Manufacturer Part Number: MCP25625-E/ML; Stock 1: 82; Pricing 1: 1=2.28, 10=2.08, 25=1.87, 100=1.71 (EUR); Product Category: CAN Interface IC; RoHS: True; Type: CAN Controller/Transceiver; Maximum Operating Temperature: + 125 C; Minimum Operating Temperature: - 40 C; Mounting Style: SMD/SMT; Package / Case: QFN-28; Packaging: Bulk; Product: CAN Controllers; Series: MCP2562; Factory Pack Quantity: 61; ComponentLink1URL: http://ww1.microchip.com/downloads/en/DeviceDoc/20005282A.pdf; ComponentLink1Description: http://ww1.microchip.com/downloads/en/DeviceDoc/20005282A.pdf; ComponentLink2URL: http://uk.rs-online.com/webdocs/137c/0900766b8137cddf.pdf; ComponentLink2Description: http://uk.rs-online.com/webdocs/137c/0900766b8137cddf.pdf; ComponentLink3URL: http://www.mouser.com/ds/2/268/20005282B-708896.pdf; ComponentLink3Description: http://www.mouser.com/ds/2/268/20005282B-708896.pdf; ComponentLink4URL: https://www.distrelec.biz/Web/Downloads/_t/ds/MCP25625_eng_tds.pdf?mime=application%2Fpdf; ComponentLink4Description: https://www.distrelec.biz/Web/Downloads/_t/ds/MCP25625_eng_tds.pdf?mime=application%2Fpdf; ComponentLink5URL: http://www.farnell.com/datasheets/1821191.pdf; ComponentLink5Description: http://www.farnell.com/datasheets/1821191.pdf; ComponentLink6URL: http://www.microchip.com/mymicrochip/filehandler.aspx?ddocname=en568896; ComponentLink6Description: http://www.microchip.com/mymicrochip/filehandler.aspx?ddocname=en568896; Supplier Part Number 1: 2448754
footprint MCP25625 (QFN, 28-Leads, Body 6.00x6.00mm, Pitch 0.65mm, Thermal Pad 4.25x4.25mm, IPC Medium Density)
pins: 1 CS, 2 RESET, 3 VDD, 4 TxCAN, 5 RxCAN, 6 CLKOUT, 7 Tx0RTS, 8 Tx1RTS, 9 Tx2RTS, 10 RXD, 11 VIO, 12 CANL, 13 CANH, 14 NC, 15 STBY, 16 TXD, 17 NC, 18 VSS, 19 VDDA, 20 OSC2, 21 OSC1, 22 GND, 23 Rx1BF, 24 Rx0BF, 25 INT, 26 SCK, 27 SI, 28 SO, 29 GND

## SN65HVD233D
designator J?, comment Can Tranciver
IC 3.3V CAN TXRX 8-SOIC; Manufacturer: Texas Instruments; Manufacturer Part Number: SN65HVD233D; Maximum Data Rate: 1 Mbps; Minimum Single Supply Voltage: 3 V; Standard Supported: ISO 11898; Number of Transceivers: 1; Power Down Mode: Standby|Sleep; Maximum Single Supply Voltage: 3.6 V; Rad Hard: No; Supplier 1: Farnell; Stock 1: 681; Pricing 1: 1=3.01, 10=2.7, 25=2.54, 50=2.38, 100=2.21, 250=2.08 (EUR); Package: 8SOIC; Packaging: Rail / Tube; Category: Transceiver; ComponentLink1URL: https://datasheet.ciiva.com/1708/sn65hvd233-1708144.pdf; ComponentLink1Description: https://datasheet.ciiva.com/1708/sn65hvd233-1708144.pdf; ComponentLink2URL: https://datasheet.ciiva.com/6132/1766988-6132624.pdf; ComponentLink2Description: https://datasheet.ciiva.com/6132/1766988-6132624.pdf; ComponentLink3URL: https://datasheet.ciiva.com/30506/sn65hvd233d-30506946.pdf; ComponentLink3Description: https://datasheet.ciiva.com/30506/sn65hvd233d-30506946.pdf; ComponentLink4URL: https://datasheet.ciiva.com/19456/909986-19456776.pdf; ComponentLink4Description: https://datasheet.ciiva.com/19456/909986-19456776.pdf; ComponentLink5URL: https://datasheet.ciiva.com/41461/001186923-da-01-en-ic-3-3v-can-txrx-sn65hvd233d-soic-8-tid-41461470.pdf; ComponentLink5Description: https://datasheet.ciiva.com/41461/001186923-da-01-en-ic-3-3v-can-txrx-sn65hvd233d-soic-8-tid-41461470.pdf; Supplier Part Number 1: 1813337
footprint SOIC127-Can Tranciver (SOIC, 8-Leads, Body 4.90x3.90mm, Pitch 1.27mm, IPC Medium Density)
pins: 1 D/TX, 2 GND, 3 VCC, 4 R/RX, 5 LBK/EN/AB, 6 CANL, 7 CANH, 8 RS

## Solder_Jumper
designator P?, comment Solder jumper
footprint SOLDER JUMPER
pins: 1, 2

## Test_pad
designator T?
Test point
footprint Test_Pad
pins: 1

## TPS62125DSGR
designator U?
Voltage Regulators - Switching Regulators 3V-17V, 300mA Buck Converter; Manufacturer: Texas Instruments; Featured Product: WEBENCH Design Center; Output Type: Adjustable; Number of Outputs: 1; Voltage - Output: 1.2 V ~ 10 V; Voltage - Input: 3 V ~ 17 V; PWM Type: Hybrid; Frequency - Switching: 1MHz; Synchronous Rectifier: Yes; Supplier 1: Farnell; Manufacturer Part Number: TPS62125DSGR; Stock 1: 0; Standard Package: 3,000; Category: Integrated Circuits (ICs); Family: PMIC - Voltage Regulators - DC DC Switching Regulators; Series: DCS-Control™; Type: Step-Down (Buck); Current - Output: 300mA; Operating Temperature: -40°C ~ 85°C; Mounting Type: *; Package / Case: *; Packaging: *; Supplier Device Package: *; ComponentLink1URL: https://datasheet.ciiva.com/28375/tps62125-28375971.pdf; ComponentLink1Description: https://datasheet.ciiva.com/28375/tps62125-28375971.pdf; ComponentLink2URL: https://datasheet.ciiva.com/6598/tps62125-6598733.pdf; ComponentLink2Description: https://datasheet.ciiva.com/6598/tps62125-6598733.pdf; Supplier Part Number 1: 2769414RL
footprint WSON-Voltage regulator (SON, 8-Leads, Body 2.00x2.00mm, Pitch 0.50mm, Thermal Pad 1.65x0.69mm, IPC Medium Density)
pins: 1 GND, 2 VIN, 3 EN, 4 EN_hys, 5 FB, 6 VOS, 7 SW, 8 PG, 9 PAD